# Altium footprint library Connector_Harwin.PcbLib: 102 footprints (part 1 of 7)
Each footprint in its own frame and in the unit in brackets; x right, y up, seen from the top. Pads: shape width x height; smd on the part's side, far side on the other; paste and mask are expansions set on the pad; w line width, h text height; cw(c..) or ccw(c..) is an arc to the next point about the centre after c.
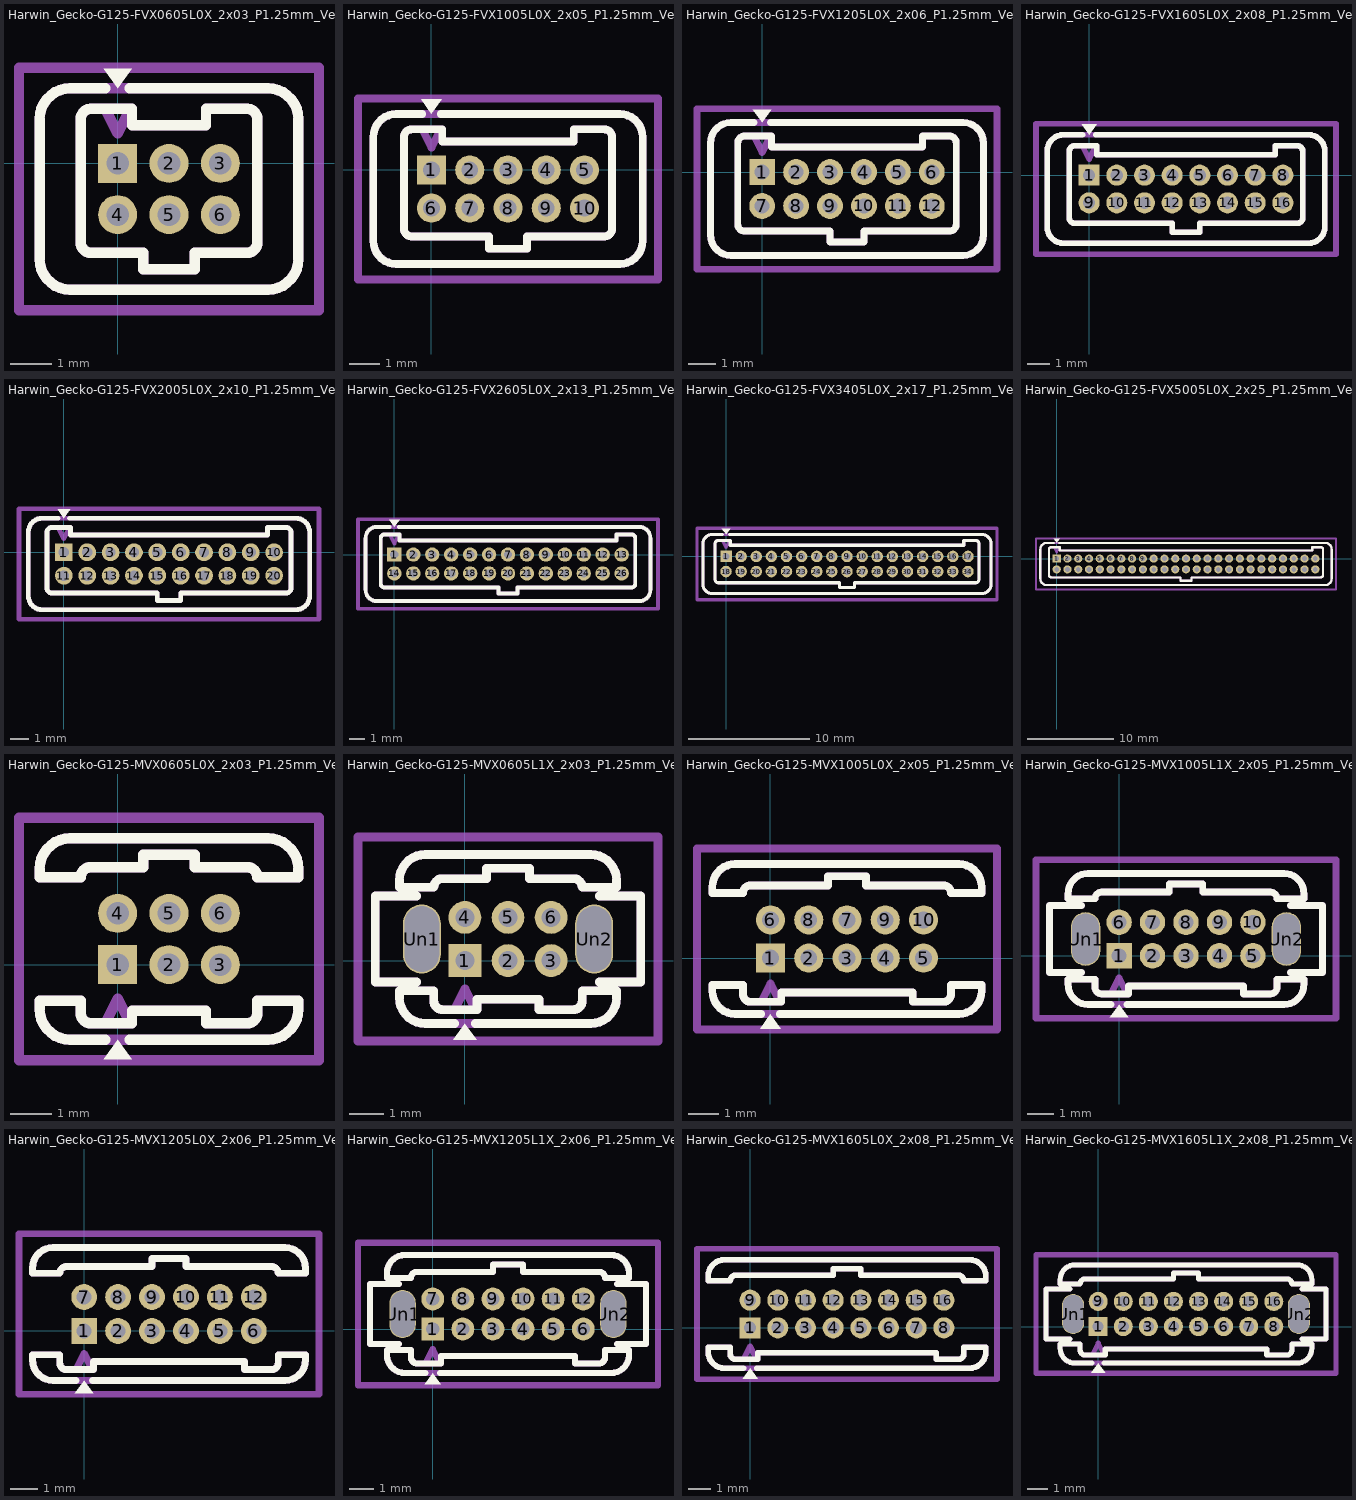
[diagram p0: the footprints below, top view; thin cyan lines are the x and y axes]

## Harwin_Gecko-G125-FVX0605L0X_2x03_P1.25mm_Vertical [mm]
pads (6):
  rect 0.95x0.95 hole 0.55: 1(0,0)
  round 0.95 hole 0.55: 2(1.25,0) 3(2.5,0) 4(0,-1.25) 5(1.25,-1.25) 6(2.5,-1.25)
F.SilkS:
  region: 0,1.83 -0.34,2.3 0.34,2.3
  lines w0.254: -0.3,1.825 -1.15,1.825 ccw(c-1.15,1.075) -1.9,1.075 -1.9,-2.325 ccw(c-1.15,-2.325) -1.15,-3.075 3.65,-3.075 ccw(c3.65,-2.325) 4.4,-2.325 4.4,1.075 ccw(c3.65,1.075) 3.65,1.825 0.3,1.825 ; -0.9,-1.925 ccw(c-0.65,-1.925) -0.65,-2.175 0.625,-2.175 0.625,-2.575 1.875,-2.575 1.875,-2.175 3.15,-2.175 ccw(c3.15,-1.925) 3.4,-1.925 3.4,1.075 ccw(c3.15,1.075) 3.15,1.325 2.15,1.325 2.15,0.925 0.35,0.925 0.35,1.325 -0.65,1.325 ccw(c-0.65,1.075) -0.9,1.075 -0.9,-1.925
Top Assembly:
  lines w0.254: -0.3,1.325 0,0.725 0.3,1.325 ; -1.9,-2.325 ccw(c-1.15,-2.325) -1.15,-3.075 3.65,-3.075 ccw(c3.65,-2.325) 4.4,-2.325 4.4,1.075 ccw(c3.65,1.075) 3.65,1.825 -1.15,1.825 ccw(c-1.15,1.075) -1.9,1.075 -1.9,-2.325 ; -0.9,-1.925 ccw(c-0.65,-1.925) -0.65,-2.175 0.625,-2.175 0.625,-2.575 1.875,-2.575 1.875,-2.175 3.15,-2.175 ccw(c3.15,-1.925) 3.4,-1.925 3.4,1.075 ccw(c3.15,1.075) 3.15,1.325 2.15,1.325 2.15,0.925 0.35,0.925 0.35,1.325 -0.65,1.325 ccw(c-0.65,1.075) -0.9,1.075 -0.9,-1.925
  text "'.Designator'" at -2.797,-1.465 h1
Top Courtyard:
  lines w0.254: -2.4,-3.58 4.9,-3.58 4.9,2.33 -2.4,2.33 -2.4,-3.58
Top Designator:
  text ".Designator" at -6.518,-1.133 h1.52

## Harwin_Gecko-G125-FVX1005L0X_2x05_P1.25mm_Vertical [mm]
pads (10):
  rect 0.95x0.95 hole 0.55: 1(0,0)
  round 0.95 hole 0.55: 2(1.25,0) 3(2.5,0) 4(3.75,0) 5(5,0) 6(0,-1.25) 7(1.25,-1.25) 8(2.5,-1.25) 9(3.75,-1.25) 10(5,-1.25)
F.SilkS:
  region: 0,1.83 -0.34,2.3 0.34,2.3
  lines w0.254: -0.3,1.825 -1.15,1.825 ccw(c-1.15,1.075) -1.9,1.075 -1.9,-2.325 ccw(c-1.15,-2.325) -1.15,-3.075 6.15,-3.075 ccw(c6.15,-2.325) 6.9,-2.325 6.9,1.075 ccw(c6.15,1.075) 6.15,1.825 0.3,1.825 ; -0.9,-1.925 ccw(c-0.65,-1.925) -0.65,-2.175 1.875,-2.175 1.875,-2.575 3.125,-2.575 3.125,-2.175 5.65,-2.175 ccw(c5.65,-1.925) 5.9,-1.925 5.9,1.075 ccw(c5.65,1.075) 5.65,1.325 4.65,1.325 4.65,0.925 0.35,0.925 0.35,1.325 -0.65,1.325 ccw(c-0.65,1.075) -0.9,1.075 -0.9,-1.925
Top Assembly:
  lines w0.254: -0.3,1.325 0,0.725 0.3,1.325 ; -1.9,-2.325 ccw(c-1.15,-2.325) -1.15,-3.075 6.15,-3.075 ccw(c6.15,-2.325) 6.9,-2.325 6.9,1.075 ccw(c6.15,1.075) 6.15,1.825 -1.15,1.825 ccw(c-1.15,1.075) -1.9,1.075 -1.9,-2.325 ; -0.9,-1.925 ccw(c-0.65,-1.925) -0.65,-2.175 1.875,-2.175 1.875,-2.575 3.125,-2.575 3.125,-2.175 5.65,-2.175 ccw(c5.65,-1.925) 5.9,-1.925 5.9,1.075 ccw(c5.65,1.075) 5.65,1.325 4.65,1.325 4.65,0.925 0.35,0.925 0.35,1.325 -0.65,1.325 ccw(c-0.65,1.075) -0.9,1.075 -0.9,-1.925
  text "'.Designator'" at -1.547,-1.465 h1
Top Courtyard:
  lines w0.254: -2.4,-3.58 7.4,-3.58 7.4,2.33 -2.4,2.33 -2.4,-3.58
Top Designator:
  text ".Designator" at -5.118,-1.133 h1.52

## Harwin_Gecko-G125-FVX1205L0X_2x06_P1.25mm_Vertical [mm]
pads (12):
  rect 0.95x0.95 hole 0.55: 1(0,0)
  round 0.95 hole 0.55: 2(1.25,0) 3(2.5,0) 4(3.75,0) 5(5,0) 6(6.25,0) 7(0,-1.25) 8(1.25,-1.25) 9(2.5,-1.25) 10(3.75,-1.25) 11(5,-1.25) 12(6.25,-1.25)
F.SilkS:
  region: 0,1.83 -0.34,2.3 0.34,2.3
  lines w0.254: -0.3,1.825 -1.15,1.825 ccw(c-1.15,1.075) -1.9,1.075 -1.9,-2.325 ccw(c-1.15,-2.325) -1.15,-3.075 7.4,-3.075 ccw(c7.4,-2.325) 8.15,-2.325 8.15,1.075 ccw(c7.4,1.075) 7.4,1.825 0.3,1.825 ; -0.9,-1.925 ccw(c-0.65,-1.925) -0.65,-2.175 2.5,-2.175 2.5,-2.575 3.75,-2.575 3.75,-2.175 6.9,-2.175 ccw(c6.9,-1.925) 7.15,-1.925 7.15,1.075 ccw(c6.9,1.075) 6.9,1.325 5.9,1.325 5.9,0.925 0.35,0.925 0.35,1.325 -0.65,1.325 ccw(c-0.65,1.075) -0.9,1.075 -0.9,-1.925
Top Assembly:
  lines w0.254: -0.3,1.325 0,0.725 0.3,1.325 ; -1.9,-2.325 ccw(c-1.15,-2.325) -1.15,-3.075 7.4,-3.075 ccw(c7.4,-2.325) 8.15,-2.325 8.15,1.075 ccw(c7.4,1.075) 7.4,1.825 -1.15,1.825 ccw(c-1.15,1.075) -1.9,1.075 -1.9,-2.325 ; -0.9,-1.925 ccw(c-0.65,-1.925) -0.65,-2.175 2.5,-2.175 2.5,-2.575 3.75,-2.575 3.75,-2.175 6.9,-2.175 ccw(c6.9,-1.925) 7.15,-1.925 7.15,1.075 ccw(c6.9,1.075) 6.9,1.325 5.9,1.325 5.9,0.925 0.35,0.925 0.35,1.325 -0.65,1.325 ccw(c-0.65,1.075) -0.9,1.075 -0.9,-1.925
  text "'.Designator'" at -0.922,-1.465 h1
Top Courtyard:
  lines w0.254: -2.4,-3.58 8.65,-3.58 8.65,2.33 -2.4,2.33 -2.4,-3.58
Top Designator:
  text ".Designator" at -4.493,-1.133 h1.52

## Harwin_Gecko-G125-FVX1605L0X_2x08_P1.25mm_Vertical [mm]
pads (16):
  rect 0.95x0.95 hole 0.55: 1(0,0)
  round 0.95 hole 0.55: 2(1.25,0) 3(2.5,0) 4(3.75,0) 5(5,0) 6(6.25,0) 7(7.5,0) 8(8.75,0) 9(0,-1.25) 10(1.25,-1.25) 11(2.5,-1.25) 12(3.75,-1.25) 13(5,-1.25) 14(6.25,-1.25) 15(7.5,-1.25) 16(8.75,-1.25)
F.SilkS:
  region: 0,1.83 -0.34,2.3 0.34,2.3
  lines w0.254: -0.3,1.825 -1.15,1.825 ccw(c-1.15,1.075) -1.9,1.075 -1.9,-2.325 ccw(c-1.15,-2.325) -1.15,-3.075 9.9,-3.075 ccw(c9.9,-2.325) 10.65,-2.325 10.65,1.075 ccw(c9.9,1.075) 9.9,1.825 0.3,1.825 ; -0.9,-1.925 ccw(c-0.65,-1.925) -0.65,-2.175 3.75,-2.175 3.75,-2.575 5,-2.575 5,-2.175 9.4,-2.175 ccw(c9.4,-1.925) 9.65,-1.925 9.65,1.075 ccw(c9.4,1.075) 9.4,1.325 8.4,1.325 8.4,0.925 0.35,0.925 0.35,1.325 -0.65,1.325 ccw(c-0.65,1.075) -0.9,1.075 -0.9,-1.925
Top Assembly:
  lines w0.254: -0.3,1.325 0,0.725 0.3,1.325 ; -1.9,-2.325 ccw(c-1.15,-2.325) -1.15,-3.075 9.9,-3.075 ccw(c9.9,-2.325) 10.65,-2.325 10.65,1.075 ccw(c9.9,1.075) 9.9,1.825 -1.15,1.825 ccw(c-1.15,1.075) -1.9,1.075 -1.9,-2.325 ; -0.9,-1.925 ccw(c-0.65,-1.925) -0.65,-2.175 3.75,-2.175 3.75,-2.575 5,-2.575 5,-2.175 9.4,-2.175 ccw(c9.4,-1.925) 9.65,-1.925 9.65,1.075 ccw(c9.4,1.075) 9.4,1.325 8.4,1.325 8.4,0.925 0.35,0.925 0.35,1.325 -0.65,1.325 ccw(c-0.65,1.075) -0.9,1.075 -0.9,-1.925
  text "'.Designator'" at 0.328,-1.465 h1
Top Courtyard:
  lines w0.254: -2.4,-3.58 11.15,-3.58 11.15,2.33 -2.4,2.33 -2.4,-3.58
Top Designator:
  text ".Designator" at -3.243,-1.133 h1.52

## Harwin_Gecko-G125-FVX2005L0X_2x10_P1.25mm_Vertical [mm]
pads (20):
  rect 0.95x0.95 hole 0.55: 1(0,0)
  round 0.95 hole 0.55: 2(1.25,0) 3(2.5,0) 4(3.75,0) 5(5,0) 6(6.25,0) 7(7.5,0) 8(8.75,0) 9(10,0) 10(11.25,0) 11(0,-1.25) 12(1.25,-1.25) 13(2.5,-1.25) 14(3.75,-1.25) 15(5,-1.25) 16(6.25,-1.25) 17(7.5,-1.25) 18(8.75,-1.25) 19(10,-1.25) 20(11.25,-1.25)
F.SilkS:
  region: 0,1.83 -0.34,2.3 0.34,2.3
  lines w0.254: -0.3,1.825 -1.15,1.825 ccw(c-1.15,1.075) -1.9,1.075 -1.9,-2.325 ccw(c-1.15,-2.325) -1.15,-3.075 12.4,-3.075 ccw(c12.4,-2.325) 13.15,-2.325 13.15,1.075 ccw(c12.4,1.075) 12.4,1.825 0.3,1.825 ; -0.9,-1.925 ccw(c-0.65,-1.925) -0.65,-2.175 5,-2.175 5,-2.575 6.25,-2.575 6.25,-2.175 11.9,-2.175 ccw(c11.9,-1.925) 12.15,-1.925 12.15,1.075 ccw(c11.9,1.075) 11.9,1.325 10.9,1.325 10.9,0.925 0.35,0.925 0.35,1.325 -0.65,1.325 ccw(c-0.65,1.075) -0.9,1.075 -0.9,-1.925
Top Assembly:
  lines w0.254: -0.3,1.325 0,0.725 0.3,1.325 ; -1.9,-2.325 ccw(c-1.15,-2.325) -1.15,-3.075 12.4,-3.075 ccw(c12.4,-2.325) 13.15,-2.325 13.15,1.075 ccw(c12.4,1.075) 12.4,1.825 -1.15,1.825 ccw(c-1.15,1.075) -1.9,1.075 -1.9,-2.325 ; -0.9,-1.925 ccw(c-0.65,-1.925) -0.65,-2.175 5,-2.175 5,-2.575 6.25,-2.575 6.25,-2.175 11.9,-2.175 ccw(c11.9,-1.925) 12.15,-1.925 12.15,1.075 ccw(c11.9,1.075) 11.9,1.325 10.9,1.325 10.9,0.925 0.35,0.925 0.35,1.325 -0.65,1.325 ccw(c-0.65,1.075) -0.9,1.075 -0.9,-1.925
  text "'.Designator'" at 1.578,-1.465 h1
Top Courtyard:
  lines w0.254: -2.4,-3.58 13.65,-3.58 13.65,2.33 -2.4,2.33 -2.4,-3.58
Top Designator:
  text ".Designator" at -1.993,-1.133 h1.52

## Harwin_Gecko-G125-FVX2605L0X_2x13_P1.25mm_Vertical [mm]
pads (26):
  rect 0.95x0.95 hole 0.55: 1(0,0)
  round 0.95 hole 0.55: 2(1.25,0) 3(2.5,0) 4(3.75,0) 5(5,0) 6(6.25,0) 7(7.5,0) 8(8.75,0) 9(10,0) 10(11.25,0) 11(12.5,0) 12(13.75,0) 13(15,0) 14(0,-1.25) 15(1.25,-1.25) 16(2.5,-1.25) 17(3.75,-1.25) 18(5,-1.25) 19(6.25,-1.25) 20(7.5,-1.25) 21(8.75,-1.25) 22(10,-1.25) 23(11.25,-1.25) 24(12.5,-1.25) 25(13.75,-1.25) 26(15,-1.25)
F.SilkS:
  region: 0,1.83 -0.34,2.3 0.34,2.3
  lines w0.254: -0.3,1.825 -1.15,1.825 ccw(c-1.15,1.075) -1.9,1.075 -1.9,-2.325 ccw(c-1.15,-2.325) -1.15,-3.075 16.15,-3.075 ccw(c16.15,-2.325) 16.9,-2.325 16.9,1.075 ccw(c16.15,1.075) 16.15,1.825 0.3,1.825 ; -0.9,-1.925 ccw(c-0.65,-1.925) -0.65,-2.175 6.875,-2.175 6.875,-2.575 8.125,-2.575 8.125,-2.175 15.65,-2.175 ccw(c15.65,-1.925) 15.9,-1.925 15.9,1.075 ccw(c15.65,1.075) 15.65,1.325 14.65,1.325 14.65,0.925 0.35,0.925 0.35,1.325 -0.65,1.325 ccw(c-0.65,1.075) -0.9,1.075 -0.9,-1.925
Top Assembly:
  lines w0.254: -0.3,1.325 0,0.725 0.3,1.325 ; -1.9,-2.325 ccw(c-1.15,-2.325) -1.15,-3.075 16.15,-3.075 ccw(c16.15,-2.325) 16.9,-2.325 16.9,1.075 ccw(c16.15,1.075) 16.15,1.825 -1.15,1.825 ccw(c-1.15,1.075) -1.9,1.075 -1.9,-2.325 ; -0.9,-1.925 ccw(c-0.65,-1.925) -0.65,-2.175 6.875,-2.175 6.875,-2.575 8.125,-2.575 8.125,-2.175 15.65,-2.175 ccw(c15.65,-1.925) 15.9,-1.925 15.9,1.075 ccw(c15.65,1.075) 15.65,1.325 14.65,1.325 14.65,0.925 0.35,0.925 0.35,1.325 -0.65,1.325 ccw(c-0.65,1.075) -0.9,1.075 -0.9,-1.925
  text "'.Designator'" at 3.453,-1.465 h1
Top Courtyard:
  lines w0.254: -2.4,-3.58 17.4,-3.58 17.4,2.33 -2.4,2.33 -2.4,-3.58
Top Designator:
  text ".Designator" at -0.118,-1.133 h1.52

## Harwin_Gecko-G125-FVX3405L0X_2x17_P1.25mm_Vertical [mm]
pads (34):
  rect 0.95x0.95 hole 0.55: 1(0,0)
  round 0.95 hole 0.55: 2(1.25,0) 3(2.5,0) 4(3.75,0) 5(5,0) 6(6.25,0) 7(7.5,0) 8(8.75,0) 9(10,0) 10(11.25,0) 11(12.5,0) 12(13.75,0) 13(15,0) 14(16.25,0) 15(17.5,0) 16(18.75,0) 17(20,0) 18(0,-1.25) 19(1.25,-1.25) 20(2.5,-1.25) 21(3.75,-1.25) 22(5,-1.25) 23(6.25,-1.25) 24(7.5,-1.25) 25(8.75,-1.25) 26(10,-1.25) 27(11.25,-1.25) 28(12.5,-1.25) 29(13.75,-1.25) 30(15,-1.25) 31(16.25,-1.25) 32(17.5,-1.25) 33(18.75,-1.25) 34(20,-1.25)
F.SilkS:
  region: 0,1.83 -0.34,2.3 0.34,2.3
  lines w0.254: -0.3,1.825 -1.15,1.825 ccw(c-1.15,1.075) -1.9,1.075 -1.9,-2.325 ccw(c-1.15,-2.325) -1.15,-3.075 21.15,-3.075 ccw(c21.15,-2.325) 21.9,-2.325 21.9,1.075 ccw(c21.15,1.075) 21.15,1.825 0.3,1.825 ; -0.9,-1.925 ccw(c-0.65,-1.925) -0.65,-2.175 9.375,-2.175 9.375,-2.575 10.625,-2.575 10.625,-2.175 20.65,-2.175 ccw(c20.65,-1.925) 20.9,-1.925 20.9,1.075 ccw(c20.65,1.075) 20.65,1.325 19.65,1.325 19.65,0.925 0.35,0.925 0.35,1.325 -0.65,1.325 ccw(c-0.65,1.075) -0.9,1.075 -0.9,-1.925
Top Assembly:
  lines w0.254: -0.3,1.325 0,0.725 0.3,1.325 ; -1.9,-2.325 ccw(c-1.15,-2.325) -1.15,-3.075 21.15,-3.075 ccw(c21.15,-2.325) 21.9,-2.325 21.9,1.075 ccw(c21.15,1.075) 21.15,1.825 -1.15,1.825 ccw(c-1.15,1.075) -1.9,1.075 -1.9,-2.325 ; -0.9,-1.925 ccw(c-0.65,-1.925) -0.65,-2.175 9.375,-2.175 9.375,-2.575 10.625,-2.575 10.625,-2.175 20.65,-2.175 ccw(c20.65,-1.925) 20.9,-1.925 20.9,1.075 ccw(c20.65,1.075) 20.65,1.325 19.65,1.325 19.65,0.925 0.35,0.925 0.35,1.325 -0.65,1.325 ccw(c-0.65,1.075) -0.9,1.075 -0.9,-1.925
  text "'.Designator'" at 5.953,-1.465 h1
Top Courtyard:
  lines w0.254: -2.4,-3.58 22.4,-3.58 22.4,2.33 -2.4,2.33 -2.4,-3.58
Top Designator:
  text ".Designator" at 2.382,-1.133 h1.52

## Harwin_Gecko-G125-FVX5005L0X_2x25_P1.25mm_Vertical [mm]
pads (50):
  rect 0.95x0.95 hole 0.55: 1(0,0)
  round 0.95 hole 0.55: 2(1.25,0) 3(2.5,0) 4(3.75,0) 5(5,0) 6(6.25,0) 7(7.5,0) 8(8.75,0) 9(10,0) 10(11.25,0) 11(12.5,0) 12(13.75,0) 13(15,0) 14(16.25,0) 15(17.5,0) 16(18.75,0) 17(20,0) 18(21.25,0) 19(22.5,0) 20(23.75,0) 21(25,0) 22(26.25,0) 23(27.5,0) 24(28.75,0) 25(30,0) 26(0,-1.25) 27(1.25,-1.25) 28(2.5,-1.25) 29(3.75,-1.25) 30(5,-1.25) 31(6.25,-1.25) 32(7.5,-1.25) 33(8.75,-1.25) 34(10,-1.25) 35(11.25,-1.25) 36(12.5,-1.25) 37(13.75,-1.25) 38(15,-1.25) 39(16.25,-1.25) 40(17.5,-1.25) 41(18.75,-1.25) 42(20,-1.25) 43(21.25,-1.25) 44(22.5,-1.25) 45(23.75,-1.25) 46(25,-1.25) 47(26.25,-1.25) 48(27.5,-1.25) 49(28.75,-1.25) 50(30,-1.25)
F.SilkS:
  region: 0,1.83 -0.34,2.3 0.34,2.3
  lines w0.254: -0.3,1.825 -1.15,1.825 ccw(c-1.15,1.075) -1.9,1.075 -1.9,-2.325 ccw(c-1.15,-2.325) -1.15,-3.075 31.15,-3.075 ccw(c31.15,-2.325) 31.9,-2.325 31.9,1.075 ccw(c31.15,1.075) 31.15,1.825 0.3,1.825 ; -0.9,-1.925 ccw(c-0.65,-1.925) -0.65,-2.175 14.375,-2.175 14.375,-2.575 15.625,-2.575 15.625,-2.175 30.65,-2.175 ccw(c30.65,-1.925) 30.9,-1.925 30.9,1.075 ccw(c30.65,1.075) 30.65,1.325 29.65,1.325 29.65,0.925 0.35,0.925 0.35,1.325 -0.65,1.325 ccw(c-0.65,1.075) -0.9,1.075 -0.9,-1.925
Top Assembly:
  lines w0.254: -0.3,1.325 0,0.725 0.3,1.325 ; -1.9,-2.325 ccw(c-1.15,-2.325) -1.15,-3.075 31.15,-3.075 ccw(c31.15,-2.325) 31.9,-2.325 31.9,1.075 ccw(c31.15,1.075) 31.15,1.825 -1.15,1.825 ccw(c-1.15,1.075) -1.9,1.075 -1.9,-2.325 ; -0.9,-1.925 ccw(c-0.65,-1.925) -0.65,-2.175 14.375,-2.175 14.375,-2.575 15.625,-2.575 15.625,-2.175 30.65,-2.175 ccw(c30.65,-1.925) 30.9,-1.925 30.9,1.075 ccw(c30.65,1.075) 30.65,1.325 29.65,1.325 29.65,0.925 0.35,0.925 0.35,1.325 -0.65,1.325 ccw(c-0.65,1.075) -0.9,1.075 -0.9,-1.925
  text "'.Designator'" at 10.953,-1.465 h1
Top Courtyard:
  lines w0.254: -2.4,-3.58 32.4,-3.58 32.4,2.33 -2.4,2.33 -2.4,-3.58
Top Designator:
  text ".Designator" at 7.382,-1.133 h1.52

## Harwin_Gecko-G125-MVX0605L0X_2x03_P1.25mm_Vertical [mm]
pads (6):
  rect 0.95x0.95 hole 0.55: 1(0,0)
  round 0.95 hole 0.55: 2(1.25,0) 3(2.5,0) 4(0,1.25) 5(1.25,1.25) 6(2.5,1.25)
F.SilkS:
  region: 0.34,-2.3 -0.34,-2.3 0,-1.83
  lines w0.254: -0.3,-1.825 -1.15,-1.825 cw(c-1.15,-1.075) -1.9,-1.075 -1.9,-0.875 -0.9,-0.875 -0.9,-1.175 ccw(c-0.65,-1.175) -0.65,-1.425 0.35,-1.425 0.35,-1.125 2.15,-1.125 2.15,-1.425 3.15,-1.425 ccw(c3.15,-1.175) 3.4,-1.175 3.4,-0.875 4.4,-0.875 4.4,-1.075 cw(c3.65,-1.075) 3.65,-1.825 0.3,-1.825 ; -1.9,2.125 -0.9,2.125 cw(c-0.65,2.125) -0.65,2.375 0.625,2.375 0.625,2.675 1.875,2.675 1.875,2.375 3.15,2.375 cw(c3.15,2.125) 3.4,2.125 4.4,2.125 4.4,2.325 ccw(c3.65,2.325) 3.65,3.075 -1.15,3.075 ccw(c-1.15,2.325) -1.9,2.325 -1.9,2.125
Top Assembly:
  lines w0.254: -0.3,-1.425 0,-0.825 0.3,-1.425 ; -1.9,-1.075 ccw(c-1.15,-1.075) -1.15,-1.825 3.65,-1.825 ccw(c3.65,-1.075) 4.4,-1.075 4.4,-0.875 3.4,-0.875 3.4,-1.175 cw(c3.15,-1.175) 3.15,-1.425 2.15,-1.425 2.15,-1.125 0.35,-1.125 0.35,-1.425 -0.65,-1.425 cw(c-0.65,-1.175) -0.9,-1.175 -0.9,-0.875 -1.9,-0.875 -1.9,-1.075 ; -1.9,2.125 -0.9,2.125 cw(c-0.65,2.125) -0.65,2.375 0.625,2.375 0.625,2.675 1.875,2.675 1.875,2.375 3.15,2.375 cw(c3.15,2.125) 3.4,2.125 4.4,2.125 4.4,2.325 ccw(c3.65,2.325) 3.65,3.075 -1.15,3.075 ccw(c-1.15,2.325) -1.9,2.325 -1.9,2.125
  text "'.Designator'" at -2.797,-0.215 h1
Top Courtyard:
  lines w0.254: -2.4,-2.33 4.9,-2.33 4.9,3.58 -2.4,3.58 -2.4,-2.33
Top Designator:
  text ".Designator" at -6.518,0.117 h1.52

## Harwin_Gecko-G125-MVX0605L1X_2x03_P1.25mm_Vertical [mm]
pads (8):
  rect 0.95x0.95 hole 0.55: 1(0,0)
  round 0.95 hole 0.55: 2(1.25,0) 3(2.5,0) 4(0,1.25) 5(1.25,1.25) 6(2.5,1.25)
  rrect100% 1.1x2 hole 1.9 slot 1 at 0 deg: Un1(-1.25,0.625) Un2(3.75,0.625)
F.SilkS:
  region: 0.34,-2.3 -0.34,-2.3 0,-1.83
  lines w0.254: -1.4,-0.625 -2.6,-0.625 -2.6,1.875 -1.4,1.875 ; -0.3,-1.825 -1.15,-1.825 cw(c-1.15,-1.075) -1.9,-1.075 -1.9,-0.875 -0.9,-0.875 -0.9,-1.175 ccw(c-0.65,-1.175) -0.65,-1.425 0.35,-1.425 0.35,-1.125 2.15,-1.125 2.15,-1.425 3.15,-1.425 ccw(c3.15,-1.175) 3.4,-1.175 3.4,-0.875 4.4,-0.875 4.4,-1.075 cw(c3.65,-1.075) 3.65,-1.825 0.3,-1.825 ; 3.9,-0.625 5.1,-0.625 5.1,1.875 3.9,1.875 ; -1.9,2.125 -0.9,2.125 cw(c-0.65,2.125) -0.65,2.375 0.625,2.375 0.625,2.675 1.875,2.675 1.875,2.375 3.15,2.375 cw(c3.15,2.125) 3.4,2.125 4.4,2.125 4.4,2.325 ccw(c3.65,2.325) 3.65,3.075 -1.15,3.075 ccw(c-1.15,2.325) -1.9,2.325 -1.9,2.125
Top Assembly:
  lines w0.254: -1.4,-0.625 -2.6,-0.625 -2.6,1.875 -1.4,1.875 ; -0.3,-1.425 0,-0.825 0.3,-1.425 ; 3.9,-0.625 5.1,-0.625 5.1,1.875 3.9,1.875 ; -1.9,-1.075 ccw(c-1.15,-1.075) -1.15,-1.825 3.65,-1.825 ccw(c3.65,-1.075) 4.4,-1.075 4.4,-0.875 3.4,-0.875 3.4,-1.175 cw(c3.15,-1.175) 3.15,-1.425 2.15,-1.425 2.15,-1.125 0.35,-1.125 0.35,-1.425 -0.65,-1.425 cw(c-0.65,-1.175) -0.9,-1.175 -0.9,-0.875 -1.9,-0.875 -1.9,-1.075 ; -1.9,2.125 -0.9,2.125 cw(c-0.65,2.125) -0.65,2.375 0.625,2.375 0.625,2.675 1.875,2.675 1.875,2.375 3.15,2.375 cw(c3.15,2.125) 3.4,2.125 4.4,2.125 4.4,2.325 ccw(c3.65,2.325) 3.65,3.075 -1.15,3.075 ccw(c-1.15,2.325) -1.9,2.325 -1.9,2.125
  text "'.Designator'" at -2.797,-0.215 h1
Top Courtyard:
  lines w0.254: -3.1,-2.33 5.6,-2.33 5.6,3.58 -3.1,3.58 -3.1,-2.33
Top Designator:
  text ".Designator" at -6.368,0.117 h1.52

## Harwin_Gecko-G125-MVX1005L0X_2x05_P1.25mm_Vertical [mm]
pads (10):
  rect 0.95x0.95 hole 0.55: 1(0,0)
  round 0.95 hole 0.55: 2(1.25,0) 3(2.5,0) 4(3.75,0) 5(5,0) 6(0,1.25) 7(2.5,1.25) 8(1.25,1.25) 9(3.75,1.25) 10(5,1.25)
F.SilkS:
  region: 0.34,-2.3 -0.34,-2.3 0,-1.83
  lines w0.254: -0.3,-1.825 -1.15,-1.825 cw(c-1.15,-1.075) -1.9,-1.075 -1.9,-0.875 -0.9,-0.875 -0.9,-1.175 ccw(c-0.65,-1.175) -0.65,-1.425 0.35,-1.425 0.35,-1.125 4.65,-1.125 4.65,-1.425 5.65,-1.425 ccw(c5.65,-1.175) 5.9,-1.175 5.9,-0.875 6.9,-0.875 6.9,-1.075 cw(c6.15,-1.075) 6.15,-1.825 0.3,-1.825 ; -1.9,2.125 -0.9,2.125 cw(c-0.65,2.125) -0.65,2.375 1.875,2.375 1.875,2.675 3.125,2.675 3.125,2.375 5.65,2.375 cw(c5.65,2.125) 5.9,2.125 6.9,2.125 6.9,2.325 ccw(c6.15,2.325) 6.15,3.075 -1.15,3.075 ccw(c-1.15,2.325) -1.9,2.325 -1.9,2.125
Top Assembly:
  lines w0.254: -0.3,-1.425 0,-0.825 0.3,-1.425 ; -1.9,-1.075 ccw(c-1.15,-1.075) -1.15,-1.825 6.15,-1.825 ccw(c6.15,-1.075) 6.9,-1.075 6.9,-0.875 5.9,-0.875 5.9,-1.175 cw(c5.65,-1.175) 5.65,-1.425 4.65,-1.425 4.65,-1.125 0.35,-1.125 0.35,-1.425 -0.65,-1.425 cw(c-0.65,-1.175) -0.9,-1.175 -0.9,-0.875 -1.9,-0.875 -1.9,-1.075 ; -1.9,2.125 -0.9,2.125 cw(c-0.65,2.125) -0.65,2.375 1.875,2.375 1.875,2.675 3.125,2.675 3.125,2.375 5.65,2.375 cw(c5.65,2.125) 5.9,2.125 6.9,2.125 6.9,2.325 ccw(c6.15,2.325) 6.15,3.075 -1.15,3.075 ccw(c-1.15,2.325) -1.9,2.325 -1.9,2.125
  text "'.Designator'" at -1.547,-0.215 h1
Top Courtyard:
  lines w0.254: -2.4,-2.33 7.4,-2.33 7.4,3.58 -2.4,3.58 -2.4,-2.33
Top Designator:
  text ".Designator" at -5.118,0.117 h1.52

## Harwin_Gecko-G125-MVX1005L1X_2x05_P1.25mm_Vertical [mm]
pads (12):
  rect 0.95x0.95 hole 0.55: 1(0,0)
  round 0.95 hole 0.55: 2(1.25,0) 3(2.5,0) 4(3.75,0) 5(5,0) 6(0,1.25) 7(1.25,1.25) 8(2.5,1.25) 9(3.75,1.25) 10(5,1.25)
  rrect100% 1.1x2 hole 1.9 slot 1 at 0 deg: Un1(-1.25,0.625) Un2(6.25,0.625)
F.SilkS:
  region: 0.34,-2.3 -0.34,-2.3 0,-1.83
  lines w0.254: -1.4,-0.625 -2.6,-0.625 -2.6,1.875 -1.4,1.875 ; -0.3,-1.825 -1.15,-1.825 cw(c-1.15,-1.075) -1.9,-1.075 -1.9,-0.875 -0.9,-0.875 -0.9,-1.175 ccw(c-0.65,-1.175) -0.65,-1.425 0.35,-1.425 0.35,-1.125 4.65,-1.125 4.65,-1.425 5.65,-1.425 ccw(c5.65,-1.175) 5.9,-1.175 5.9,-0.875 6.9,-0.875 6.9,-1.075 cw(c6.15,-1.075) 6.15,-1.825 0.3,-1.825 ; 6.4,-0.625 7.6,-0.625 7.6,1.875 6.4,1.875 ; -1.9,2.125 -0.9,2.125 cw(c-0.65,2.125) -0.65,2.375 1.875,2.375 1.875,2.675 3.125,2.675 3.125,2.375 5.65,2.375 cw(c5.65,2.125) 5.9,2.125 6.9,2.125 6.9,2.325 ccw(c6.15,2.325) 6.15,3.075 -1.15,3.075 ccw(c-1.15,2.325) -1.9,2.325 -1.9,2.125
Top Assembly:
  lines w0.254: -1.4,-0.625 -2.6,-0.625 -2.6,1.875 -1.4,1.875 ; -0.3,-1.425 0,-0.825 0.3,-1.425 ; 6.4,-0.625 7.6,-0.625 7.6,1.875 6.4,1.875 ; -1.9,-1.075 ccw(c-1.15,-1.075) -1.15,-1.825 6.15,-1.825 ccw(c6.15,-1.075) 6.9,-1.075 6.9,-0.875 5.9,-0.875 5.9,-1.175 cw(c5.65,-1.175) 5.65,-1.425 4.65,-1.425 4.65,-1.125 0.35,-1.125 0.35,-1.425 -0.65,-1.425 cw(c-0.65,-1.175) -0.9,-1.175 -0.9,-0.875 -1.9,-0.875 -1.9,-1.075 ; -1.9,2.125 -0.9,2.125 cw(c-0.65,2.125) -0.65,2.375 1.875,2.375 1.875,2.675 3.125,2.675 3.125,2.375 5.65,2.375 cw(c5.65,2.125) 5.9,2.125 6.9,2.125 6.9,2.325 ccw(c6.15,2.325) 6.15,3.075 -1.15,3.075 ccw(c-1.15,2.325) -1.9,2.325 -1.9,2.125
  text "'.Designator'" at -1.547,-0.215 h1
Top Courtyard:
  lines w0.254: -3.1,-2.33 8.1,-2.33 8.1,3.58 -3.1,3.58 -3.1,-2.33
Top Designator:
  text ".Designator" at -5.118,0.117 h1.52

## Harwin_Gecko-G125-MVX1205L0X_2x06_P1.25mm_Vertical [mm]
pads (12):
  rect 0.95x0.95 hole 0.55: 1(0,0)
  round 0.95 hole 0.55: 2(1.25,0) 3(2.5,0) 4(3.75,0) 5(5,0) 6(6.25,0) 7(0,1.25) 8(1.25,1.25) 9(2.5,1.25) 10(3.75,1.25) 11(5,1.25) 12(6.25,1.25)
F.SilkS:
  region: 0.34,-2.3 -0.34,-2.3 0,-1.83
  lines w0.254: -0.3,-1.825 -1.15,-1.825 cw(c-1.15,-1.075) -1.9,-1.075 -1.9,-0.875 -0.9,-0.875 -0.9,-1.175 ccw(c-0.65,-1.175) -0.65,-1.425 0.35,-1.425 0.35,-1.125 5.9,-1.125 5.9,-1.425 6.9,-1.425 ccw(c6.9,-1.175) 7.15,-1.175 7.15,-0.875 8.15,-0.875 8.15,-1.075 cw(c7.4,-1.075) 7.4,-1.825 0.3,-1.825 ; -1.9,2.125 -0.9,2.125 cw(c-0.65,2.125) -0.65,2.375 2.5,2.375 2.5,2.675 3.75,2.675 3.75,2.375 6.9,2.375 cw(c6.9,2.125) 7.15,2.125 8.15,2.125 8.15,2.325 ccw(c7.4,2.325) 7.4,3.075 -1.15,3.075 ccw(c-1.15,2.325) -1.9,2.325 -1.9,2.125
Top Assembly:
  lines w0.254: -0.3,-1.425 0,-0.825 0.3,-1.425 ; -1.9,-1.075 ccw(c-1.15,-1.075) -1.15,-1.825 7.4,-1.825 ccw(c7.4,-1.075) 8.15,-1.075 8.15,-0.875 7.15,-0.875 7.15,-1.175 cw(c6.9,-1.175) 6.9,-1.425 5.9,-1.425 5.9,-1.125 0.35,-1.125 0.35,-1.425 -0.65,-1.425 cw(c-0.65,-1.175) -0.9,-1.175 -0.9,-0.875 -1.9,-0.875 -1.9,-1.075 ; -1.9,2.125 -0.9,2.125 cw(c-0.65,2.125) -0.65,2.375 2.5,2.375 2.5,2.675 3.75,2.675 3.75,2.375 6.9,2.375 cw(c6.9,2.125) 7.15,2.125 8.15,2.125 8.15,2.325 ccw(c7.4,2.325) 7.4,3.075 -1.15,3.075 ccw(c-1.15,2.325) -1.9,2.325 -1.9,2.125
  text "'.Designator'" at -0.922,-0.215 h1
Top Courtyard:
  lines w0.254: -2.4,-2.33 8.65,-2.33 8.65,3.58 -2.4,3.58 -2.4,-2.33
Top Designator:
  text ".Designator" at -4.493,0.117 h1.52

## Harwin_Gecko-G125-MVX1205L1X_2x06_P1.25mm_Vertical [mm]
pads (14):
  rect 0.95x0.95 hole 0.55: 1(0,0)
  round 0.95 hole 0.55: 2(1.25,0) 3(2.5,0) 4(3.75,0) 5(5,0) 6(6.25,0) 7(0,1.25) 8(1.25,1.25) 9(2.5,1.25) 10(3.75,1.25) 11(5,1.25) 12(6.25,1.25)
  rrect100% 1.1x2 hole 1.9 slot 1 at 0 deg: Un1(-1.25,0.625) Un2(7.5,0.625)
F.SilkS:
  region: 0.34,-2.3 -0.34,-2.3 0,-1.83
  lines w0.254: -1.4,-0.625 -2.6,-0.625 -2.6,1.875 -1.4,1.875 ; -0.3,-1.825 -1.15,-1.825 cw(c-1.15,-1.075) -1.9,-1.075 -1.9,-0.875 -0.9,-0.875 -0.9,-1.175 ccw(c-0.65,-1.175) -0.65,-1.425 0.35,-1.425 0.35,-1.125 5.9,-1.125 5.9,-1.425 6.9,-1.425 ccw(c6.9,-1.175) 7.15,-1.175 7.15,-0.875 8.15,-0.875 8.15,-1.075 cw(c7.4,-1.075) 7.4,-1.825 0.3,-1.825 ; 7.65,-0.625 8.85,-0.625 8.85,1.875 7.65,1.875 ; -1.9,2.125 -0.9,2.125 cw(c-0.65,2.125) -0.65,2.375 2.5,2.375 2.5,2.675 3.75,2.675 3.75,2.375 6.9,2.375 cw(c6.9,2.125) 7.15,2.125 8.15,2.125 8.15,2.325 ccw(c7.4,2.325) 7.4,3.075 -1.15,3.075 ccw(c-1.15,2.325) -1.9,2.325 -1.9,2.125
Top Assembly:
  lines w0.254: -1.4,-0.625 -2.6,-0.625 -2.6,1.875 -1.4,1.875 ; -0.3,-1.425 0,-0.825 0.3,-1.425 ; 7.65,-0.625 8.85,-0.625 8.85,1.875 7.65,1.875 ; -1.9,-1.075 ccw(c-1.15,-1.075) -1.15,-1.825 7.4,-1.825 ccw(c7.4,-1.075) 8.15,-1.075 8.15,-0.875 7.15,-0.875 7.15,-1.175 cw(c6.9,-1.175) 6.9,-1.425 5.9,-1.425 5.9,-1.125 0.35,-1.125 0.35,-1.425 -0.65,-1.425 cw(c-0.65,-1.175) -0.9,-1.175 -0.9,-0.875 -1.9,-0.875 -1.9,-1.075 ; -1.9,2.125 -0.9,2.125 cw(c-0.65,2.125) -0.65,2.375 2.5,2.375 2.5,2.675 3.75,2.675 3.75,2.375 6.9,2.375 cw(c6.9,2.125) 7.15,2.125 8.15,2.125 8.15,2.325 ccw(c7.4,2.325) 7.4,3.075 -1.15,3.075 ccw(c-1.15,2.325) -1.9,2.325 -1.9,2.125
  text "'.Designator'" at -0.922,-0.215 h1
Top Courtyard:
  lines w0.254: -3.1,-2.33 9.35,-2.33 9.35,3.58 -3.1,3.58 -3.1,-2.33
Top Designator:
  text ".Designator" at -4.493,0.117 h1.52

## Harwin_Gecko-G125-MVX1605L0X_2x08_P1.25mm_Vertical [mm]
pads (16):
  rect 0.95x0.95 hole 0.55: 1(0,0)
  round 0.95 hole 0.55: 2(1.25,0) 3(2.5,0) 4(3.75,0) 5(5,0) 6(6.25,0) 7(7.5,0) 8(8.75,0) 9(0,1.25) 10(1.25,1.25) 11(2.5,1.25) 12(3.75,1.25) 13(5,1.25) 14(6.25,1.25) 15(7.5,1.25) 16(8.75,1.25)
F.SilkS:
  region: 0.34,-2.3 -0.34,-2.3 0,-1.83
  lines w0.254: -0.3,-1.825 -1.15,-1.825 cw(c-1.15,-1.075) -1.9,-1.075 -1.9,-0.875 -0.9,-0.875 -0.9,-1.175 ccw(c-0.65,-1.175) -0.65,-1.425 0.35,-1.425 0.35,-1.125 8.4,-1.125 8.4,-1.425 9.4,-1.425 ccw(c9.4,-1.175) 9.65,-1.175 9.65,-0.875 10.65,-0.875 10.65,-1.075 cw(c9.9,-1.075) 9.9,-1.825 0.3,-1.825 ; -1.9,2.125 -0.9,2.125 cw(c-0.65,2.125) -0.65,2.375 3.75,2.375 3.75,2.675 5,2.675 5,2.375 9.4,2.375 cw(c9.4,2.125) 9.65,2.125 10.65,2.125 10.65,2.325 ccw(c9.9,2.325) 9.9,3.075 -1.15,3.075 ccw(c-1.15,2.325) -1.9,2.325 -1.9,2.125
Top Assembly:
  lines w0.254: -0.3,-1.425 0,-0.825 0.3,-1.425 ; -1.9,-1.075 ccw(c-1.15,-1.075) -1.15,-1.825 9.9,-1.825 ccw(c9.9,-1.075) 10.65,-1.075 10.65,-0.875 9.65,-0.875 9.65,-1.175 cw(c9.4,-1.175) 9.4,-1.425 8.4,-1.425 8.4,-1.125 0.35,-1.125 0.35,-1.425 -0.65,-1.425 cw(c-0.65,-1.175) -0.9,-1.175 -0.9,-0.875 -1.9,-0.875 -1.9,-1.075 ; -1.9,2.125 -0.9,2.125 cw(c-0.65,2.125) -0.65,2.375 3.75,2.375 3.75,2.675 5,2.675 5,2.375 9.4,2.375 cw(c9.4,2.125) 9.65,2.125 10.65,2.125 10.65,2.325 ccw(c9.9,2.325) 9.9,3.075 -1.15,3.075 ccw(c-1.15,2.325) -1.9,2.325 -1.9,2.125
  text "'.Designator'" at 0.328,-0.215 h1
Top Courtyard:
  lines w0.254: -2.4,-2.33 11.15,-2.33 11.15,3.58 -2.4,3.58 -2.4,-2.33
Top Designator:
  text ".Designator" at -3.243,0.117 h1.52

## Harwin_Gecko-G125-MVX1605L1X_2x08_P1.25mm_Vertical [mm]
pads (18):
  rect 0.95x0.95 hole 0.55: 1(0,0)
  round 0.95 hole 0.55: 2(1.25,0) 3(2.5,0) 4(3.75,0) 5(5,0) 6(6.25,0) 7(7.5,0) 8(8.75,0) 9(0,1.25) 10(1.25,1.25) 11(2.5,1.25) 12(3.75,1.25) 13(5,1.25) 14(6.25,1.25) 15(7.5,1.25) 16(8.75,1.25)
  rrect100% 1.1x2 hole 1.9 slot 1 at 0 deg: Un1(-1.25,0.625) Un2(10,0.625)
F.SilkS:
  region: 0.34,-2.3 -0.34,-2.3 0,-1.83
  lines w0.254: -1.4,-0.625 -2.6,-0.625 -2.6,1.875 -1.4,1.875 ; -0.3,-1.825 -1.15,-1.825 cw(c-1.15,-1.075) -1.9,-1.075 -1.9,-0.875 -0.9,-0.875 -0.9,-1.175 ccw(c-0.65,-1.175) -0.65,-1.425 0.35,-1.425 0.35,-1.125 8.4,-1.125 8.4,-1.425 9.4,-1.425 ccw(c9.4,-1.175) 9.65,-1.175 9.65,-0.875 10.65,-0.875 10.65,-1.075 cw(c9.9,-1.075) 9.9,-1.825 0.3,-1.825 ; 10.15,-0.625 11.35,-0.625 11.35,1.875 10.15,1.875 ; -1.9,2.125 -0.9,2.125 cw(c-0.65,2.125) -0.65,2.375 3.75,2.375 3.75,2.675 5,2.675 5,2.375 9.4,2.375 cw(c9.4,2.125) 9.65,2.125 10.65,2.125 10.65,2.325 ccw(c9.9,2.325) 9.9,3.075 -1.15,3.075 ccw(c-1.15,2.325) -1.9,2.325 -1.9,2.125
Top Assembly:
  lines w0.254: -1.4,-0.625 -2.6,-0.625 -2.6,1.875 -1.4,1.875 ; -0.3,-1.425 0,-0.825 0.3,-1.425 ; 10.15,-0.625 11.35,-0.625 11.35,1.875 10.15,1.875 ; -1.9,-1.075 ccw(c-1.15,-1.075) -1.15,-1.825 9.9,-1.825 ccw(c9.9,-1.075) 10.65,-1.075 10.65,-0.875 9.65,-0.875 9.65,-1.175 cw(c9.4,-1.175) 9.4,-1.425 8.4,-1.425 8.4,-1.125 0.35,-1.125 0.35,-1.425 -0.65,-1.425 cw(c-0.65,-1.175) -0.9,-1.175 -0.9,-0.875 -1.9,-0.875 -1.9,-1.075 ; -1.9,2.125 -0.9,2.125 cw(c-0.65,2.125) -0.65,2.375 3.75,2.375 3.75,2.675 5,2.675 5,2.375 9.4,2.375 cw(c9.4,2.125) 9.65,2.125 10.65,2.125 10.65,2.325 ccw(c9.9,2.325) 9.9,3.075 -1.15,3.075 ccw(c-1.15,2.325) -1.9,2.325 -1.9,2.125
  text "'.Designator'" at 0.328,-0.215 h1
Top Courtyard:
  lines w0.254: -3.1,-2.33 11.85,-2.33 11.85,3.58 -3.1,3.58 -3.1,-2.33
Top Designator:
  text ".Designator" at -3.243,0.117 h1.52